# Altium schematic symbol library MCU.SchLib: 6 symbols
Pins are listed as number, name and electrical type; pins without a type are passive.

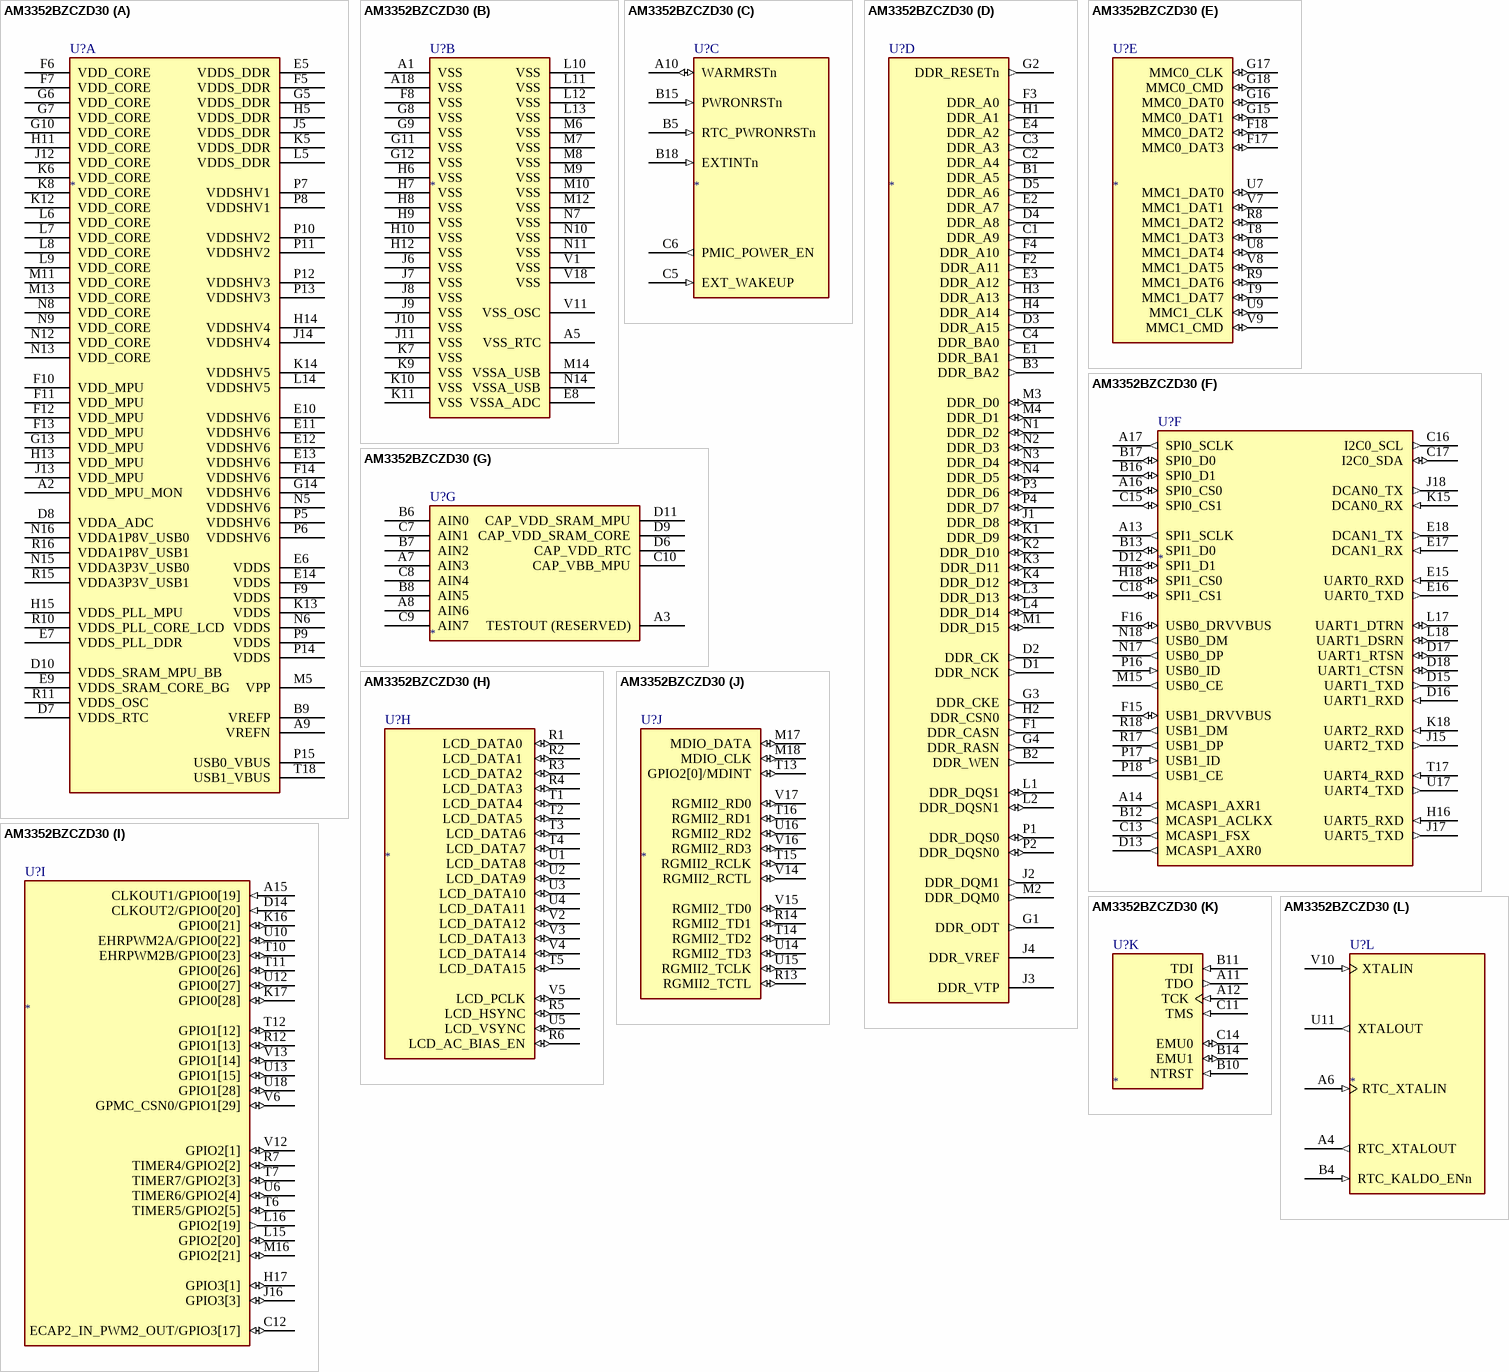
[diagram p0: symbol AM3352BZCZD30]

## AM3352BZCZD30
designator U?  (value not drawn)
Sitara ARM Cortex-A8 32-Bit RISC Microprocessor, 300 MHz, SGX530 3D Graphics Engine, -40 to 90 degC, 324-pin NFBGA (ZCZ); Manufacturer Part Number: *
part A pins: A2 VDD_MPU_MON (power), A9 VREFN (power) "Analog Negative Reference Input", B9 VREFP (power) "Analog Positive Reference Input", D7 VDDS_RTC (power) "Maximum current rating for the RTC domain", D8 VDDA_ADC (power) "Supply voltage range for ADC, Analog", D10 VDDS_SRAM_MPU_BB (power) "Maximum current rating for MPU SRAM LDOs", E5 VDDS_DDR (power) "Maximum current rating for DDR IO domain", E6 VDDS (power) "Supply voltage range for all dual-voltage IO domains", E7 VDDS_PLL_DDR (power) "Maximum current rating for the DPLL DDR", E9 VDDS_SRAM_CORE_BG (power) "Maximum current rating for core SRAM LDOs", E10 VDDSHV6 (power) "Supply voltage range for dual-voltage IO domain (1.8-V operation)", E11 VDDSHV6 (power) "Supply voltage range for dual-voltage IO domain (1.8-V operation)", E12 VDDSHV6 (power) "Supply voltage range for dual-voltage IO domain (1.8-V operation)", E13 VDDSHV6 (power) "Supply voltage range for dual-voltage IO domain (1.8-V operation)", E14 VDDS (power) "Supply voltage range for all dual-voltage IO domains", F5 VDDS_DDR (power) "Maximum current rating for DDR IO domain", F6 VDD_CORE (power) "Maximum current rating for the core domain", F7 VDD_CORE (power) "Maximum current rating for the core domain", F9 VDDS (power) "Supply voltage range for all dual-voltage IO domains", F10 VDD_MPU (power) "Maximum current rating for the MPU domain", F11 VDD_MPU (power) "Maximum current rating for the MPU domain", F12 VDD_MPU (power) "Maximum current rating for the MPU domain", F13 VDD_MPU (power) "Maximum current rating for the MPU domain", F14 VDDSHV6 (power) "Supply voltage range for dual-voltage IO domain (1.8-V operation)", G5 VDDS_DDR (power) "Maximum current rating for DDR IO domain", G6 VDD_CORE (power) "Maximum current rating for the core domain", G7 VDD_CORE (power) "Maximum current rating for the core domain", G10 VDD_CORE (power) "Maximum current rating for the core domain", G13 VDD_MPU (power) "Maximum current rating for the MPU domain", G14 VDDSHV6 (power) "Supply voltage range for dual-voltage IO domain (1.8-V operation)", H5 VDDS_DDR (power) "Maximum current rating for DDR IO domain", H11 VDD_CORE (power) "Maximum current rating for the core domain", H13 VDD_MPU (power) "Maximum current rating for the MPU domain", H14 VDDSHV4 (power) "Supply voltage range for dual-voltage IO domain (1.8-V operation)", H15 VDDS_PLL_MPU (power) "Maximum current rating for the DPLL MPU", J5 VDDS_DDR (power) "Maximum current rating for DDR IO domain", J12 VDD_CORE (power) "Maximum current rating for the core domain", J13 VDD_MPU (power) "Maximum current rating for the MPU domain", J14 VDDSHV4 (power) "Supply voltage range for dual-voltage IO domain (1.8-V operation)", K5 VDDS_DDR (power) "Maximum current rating for DDR IO domain", K6 VDD_CORE (power) "Maximum current rating for the core domain", K8 VDD_CORE (power) "Maximum current rating for the core domain", K12 VDD_CORE (power) "Maximum current rating for the core domain", K13 VDDS (power) "Supply voltage range for all dual-voltage IO domains", K14 VDDSHV5 (power) "Supply voltage range for dual-voltage IO domain (1.8-V operation)", L5 VDDS_DDR (power) "Maximum current rating for DDR IO domain", L6 VDD_CORE (power) "Maximum current rating for the core domain", L7 VDD_CORE (power) "Maximum current rating for the core domain", L8 VDD_CORE (power) "Maximum current rating for the core domain", L9 VDD_CORE (power) "Maximum current rating for the core domain", L14 VDDSHV5 (power) "Supply voltage range for dual-voltage IO domain (1.8-V operation)", M5 VPP (power) "Supply voltage range for the FUSE ROM domain", M11 VDD_CORE (power) "Maximum current rating for the core domain", M13 VDD_CORE (power) "Maximum current rating for the core domain", N5 VDDSHV6 (power) "Supply voltage range for dual-voltage IO domain (1.8-V operation)", N6 VDDS (power) "Supply voltage range for all dual-voltage IO domains", N8 VDD_CORE (power) "Maximum current rating for the core domain", N9 VDD_CORE (power) "Maximum current rating for the core domain", N12 VDD_CORE (power) "Maximum current rating for the core domain", N13 VDD_CORE (power) "Maximum current rating for the core domain", N15 VDDA3P3V_USB0 (power) "Supply voltage range for USB PHY, Analog, 3.3V", N16 VDDA1P8V_USB0 (power) "Supply voltage range for USB PHY, Analog, 1.8V", P5 VDDSHV6 (power) "Supply voltage range for dual-voltage IO domain (1.8-V operation)", P6 VDDSHV6 (power) "Supply voltage range for dual-voltage IO domain (1.8-V operation)", P7 VDDSHV1 (power) "Supply voltage range for dual-voltage IO domain (1.8-V operation)", P8 VDDSHV1 (power) "Supply voltage range for dual-voltage IO domain (1.8-V operation)", P9 VDDS (power) "Supply voltage range for all dual-voltage IO domains", P10 VDDSHV2 (power) "Supply voltage range for dual-voltage IO domain (1.8-V operation)", P11 VDDSHV2 (power) "Supply voltage range for dual-voltage IO domain (1.8-V operation)", P12 VDDSHV3 (power) "Supply voltage range for dual-voltage IO domain (1.8-V operation)", P13 VDDSHV3 (power) "Supply voltage range for dual-voltage IO domain (1.8-V operation)", P14 VDDS (power) "Supply voltage range for all dual-voltage IO domains", P15 USB0_VBUS (power) "USB0 VBUS", R10 VDDS_PLL_CORE_LCD (power) "Maximum current rating for the DPLL Core and LCD", R11 VDDS_OSC (power) "Maximum current rating for the system oscillator IOs", R15 VDDA3P3V_USB1 (power) "Supply voltage range for USB PHY, Analog, 3.3V", R16 VDDA1P8V_USB1 (power) "Supply voltage range for USB PHY, Analog, 1.8V", T18 USB1_VBUS (power) "USB1 VBUS"
part B pins: A1 VSS, A5 VSS_RTC, A18 VSS, E8 VSSA_ADC, F8 VSS, G8 VSS, G9 VSS, G11 VSS, G12 VSS, H6 VSS, H7 VSS, H8 VSS, H9 VSS, H10 VSS, H12 VSS, J6 VSS, J7 VSS, J8 VSS, J9 VSS, J10 VSS, J11 VSS, K7 VSS, K9 VSS, K10 VSS, K11 VSS, L10 VSS, L11 VSS, L12 VSS, L13 VSS, M6 VSS, M7 VSS, M8 VSS, M9 VSS, M10 VSS, M12 VSS, M14 VSSA_USB, N7 VSS, N10 VSS, N11 VSS, N14 VSSA_USB, V1 VSS, V11 VSS_OSC, V18 VSS
part C pins: A10 WARMRSTn (io) "Active low Warm Reset", B5 RTC_PWRONRSTn (in) "Active low RTC reset input", B15 PWRONRSTn (in) "Active low Power on Reset", B18 EXTINTn (in) "External Interrupt to ARM Cortext A8 core", C5 EXT_WAKEUP (in) "EXT_WAKEUP input", C6 PMIC_POWER_EN (out) "PMIC_POWER_EN output"
part D pins: B1 DDR_A5 (out) "DDR SDRAM ROW/COLUMN ADDRESS OUTPUT", B2 DDR_WEN (out) "DDR SDRAM WRITE ENABLE OUTPUT (ACTIVE LOW)", B3 DDR_BA2 (out) "DDR SDRAM BANK ADDRESS OUTPUT", C1 DDR_A9 (out) "DDR SDRAM ROW/COLUMN ADDRESS OUTPUT", C2 DDR_A4 (out) "DDR SDRAM ROW/COLUMN ADDRESS OUTPUT", C3 DDR_A3 (out) "DDR SDRAM ROW/COLUMN ADDRESS OUTPUT", C4 DDR_BA0 (out) "DDR SDRAM BANK ADDRESS OUTPUT", D1 DDR_NCK (out) "DDR SDRAM CLOCK OUTPUT (Differential-)", D2 DDR_CK (out) "DDR SDRAM CLOCK OUTPUT (Differential+)", D3 DDR_A15 (out) "DDR SDRAM ROW/COLUMN ADDRESS OUTPUT", D4 DDR_A8 (out) "DDR SDRAM ROW/COLUMN ADDRESS OUTPUT", D5 DDR_A6 (out) "DDR SDRAM ROW/COLUMN ADDRESS OUTPUT", E1 DDR_BA1 (out) "DDR SDRAM BANK ADDRESS OUTPUT", E2 DDR_A7 (out) "DDR SDRAM ROW/COLUMN ADDRESS OUTPUT", E3 DDR_A12 (out) "DDR SDRAM ROW/COLUMN ADDRESS OUTPUT", E4 DDR_A2 (out) "DDR SDRAM ROW/COLUMN ADDRESS OUTPUT", F1 DDR_CASN (out) "DDR SDRAM COLUMN ADDRESS STROBE OUTPUT (ACTIVE LOW)", F2 DDR_A11 (out) "DDR SDRAM ROW/COLUMN ADDRESS OUTPUT", F3 DDR_A0 (out) "DDR SDRAM ROW/COLUMN ADDRESS OUTPUT", F4 DDR_A10 (out) "DDR SDRAM ROW/COLUMN ADDRESS OUTPUT", G1 DDR_ODT (out) "ODT OUTPUT", G2 DDR_RESETn (out) "DDR3/DDR3L RESET OUTPUT (ACTIVE LOW)", G3 DDR_CKE (out) "DDR SDRAM CLOCK ENABLE OUTPUT", G4 DDR_RASN (out) "DDR SDRAM ROW ADDRESS STROBE OUTPUT (ACTIVE LOW)", H1 DDR_A1 (out) "DDR SDRAM ROW/COLUMN ADDRESS OUTPUT", H2 DDR_CSN0 (out) "DDR SDRAM CHIP SELECT OUTPUT", H3 DDR_A13 (out) "DDR SDRAM ROW/COLUMN ADDRESS OUTPUT", H4 DDR_A14 (out) "DDR SDRAM ROW/COLUMN ADDRESS OUTPUT", J1 DDR_D8 (io) "DDR SDRAM DATA INPUT/OUTPUT", J2 DDR_DQM1 (out) "DDR WRITE ENABLE / DATA MASK FOR DATA[15:8]", J3 DDR_VTP (power) "VTP Compensation Resistor", J4 DDR_VREF (power) "Voltage Reference Input", K1 DDR_D9 (io) "DDR SDRAM DATA INPUT/OUTPUT", K2 DDR_D10 (io) "DDR SDRAM DATA INPUT/OUTPUT", K3 DDR_D11 (io) "DDR SDRAM DATA INPUT/OUTPUT", K4 DDR_D12 (io) "DDR SDRAM DATA INPUT/OUTPUT", L1 DDR_DQS1 (io) "DDR DATA STROBE FOR DATA[15:8] (Differential+)", L2 DDR_DQSN1 (io) "DDR DATA STROBE FOR DATA[15:8] (Differential-)", L3 DDR_D13 (io) "DDR SDRAM DATA INPUT/OUTPUT", L4 DDR_D14 (io) "DDR SDRAM DATA INPUT/OUTPUT", M1 DDR_D15 (io) "DDR SDRAM DATA INPUT/OUTPUT", M2 DDR_DQM0 (out) "DDR WRITE ENABLE / DATA MASK FOR DATA[7:0]", M3 DDR_D0 (io) "DDR SDRAM DATA INPUT/OUTPUT", M4 DDR_D1 (io) "DDR SDRAM DATA INPUT/OUTPUT", N1 DDR_D2 (io) "DDR SDRAM DATA INPUT/OUTPUT", N2 DDR_D3 (io) "DDR SDRAM DATA INPUT/OUTPUT", N3 DDR_D4 (io) "DDR SDRAM DATA INPUT/OUTPUT", N4 DDR_D5 (io) "DDR SDRAM DATA INPUT/OUTPUT", P1 DDR_DQS0 (io) "DDR DATA STROBE FOR DATA[7:0] (Differential+)", P2 DDR_DQSN0 (io) "DDR DATA STROBE FOR DATA[7:0] (Differential-)", P3 DDR_D6 (io) "DDR SDRAM DATA INPUT/OUTPUT", P4 DDR_D7 (io) "DDR SDRAM DATA INPUT/OUTPUT"
part E pins: F17 MMC0_DAT3 (io), F18 MMC0_DAT2 (io), G15 MMC0_DAT1 (io), G16 MMC0_DAT0 (io), G17 MMC0_CLK (io), G18 MMC0_CMD (io), R8 MMC1_DAT2 (io), R9 MMC1_DAT6 (io), T8 MMC1_DAT3 (io), T9 MMC1_DAT7 (io), U7 MMC1_DAT0 (io), U8 MMC1_DAT4 (io), U9 MMC1_CLK (io), V7 MMC1_DAT1 (io), V8 MMC1_DAT5 (io), V9 MMC1_CMD (io)
part F pins: A13 SPI1_SCLK (out), A14 MCASP1_AXR1 (out), A16 SPI0_CS0 (io), A17 SPI0_SCLK (out), B12 MCASP1_ACLKX (out), B13 SPI1_D0 (io), B16 SPI0_D1 (io), B17 SPI0_D0 (io), C13 MCASP1_FSX (out), C15 SPI0_CS1 (io), C16 I2C0_SCL (out), C17 I2C0_SDA (io), C18 SPI1_CS1 (io), D12 SPI1_D1 (io), D13 MCASP1_AXR0 (out), D15 UART1_TXD (out), D16 UART1_RXD (in), D17 UART1_RTSN (io), D18 UART1_CTSN (io), E15 UART0_RXD (in), E16 UART0_TXD (out), E17 DCAN1_RX (in), E18 DCAN1_TX (out), F15 USB1_DRVVBUS (io) "USB1 Active high VBUS control output", F16 USB0_DRVVBUS (io), H16 UART5_RXD (in), H18 SPI1_CS0 (io), J15 UART2_TXD (out), J17 UART5_TXD (out), J18 DCAN0_TX (out), K15 DCAN0_RX (in), K18 UART2_RXD (in), L17 UART1_DTRN (io), L18 UART1_DSRN (io), M15 USB0_CE (out) "USB0 Active high Charger Enable output", N17 USB0_DP (out) "USB0 Data plus", N18 USB0_DM (out) "USB0 Data minus", P16 USB0_ID (in) "USB0 OTG ID (Micro-A or Micro-B Plug)", P17 USB1_ID (in) "USB1 OTG ID (Micro-A or Micro-B Plug)", P18 USB1_CE (out) "USB1 Active high Charger Enable output", R17 USB1_DP (out) "USB1 Data plus", R18 USB1_DM (out) "USB1 Data minus", T17 UART4_RXD (in), U17 UART4_TXD (out)
part G pins: A3 TESTOUT (RESERVED), A7 AIN3 "Analog Input/Output", A8 AIN6 "Analog Input", B6 AIN0 "Analog Input/Output", B7 AIN2 "Analog Input/Output", B8 AIN5 "Analog Input", C7 AIN1 "Analog Input/Output", C8 AIN4 "Analog Input/Output", C9 AIN7 "Analog Input", C10 CAP_VBB_MPU (power), D6 CAP_VDD_RTC (power) "Supply voltage range for the RTC core domain", D9 CAP_VDD_SRAM_CORE (power), D11 CAP_VDD_SRAM_MPU (power)
part H pins: R1 LCD_DATA0  (io), R2 LCD_DATA1  (io), R3 LCD_DATA2  (io), R4 LCD_DATA3  (io), R5 LCD_HSYNC (io), R6 LCD_AC_BIAS_EN (io), T1 LCD_DATA4  (io), T2 LCD_DATA5  (io), T3 LCD_DATA6 (io), T4 LCD_DATA7 (io), T5 LCD_DATA15 (io), U1 LCD_DATA8 (io), U2 LCD_DATA9 (io), U3 LCD_DATA10 (io), U4 LCD_DATA11 (io), U5 LCD_VSYNC (io), V2 LCD_DATA12 (io), V3 LCD_DATA13 (io), V4 LCD_DATA14 (io), V5 LCD_PCLK (io)
part I pins: A15 CLKOUT1/GPIO0[19] (in) "External DMA Event or Interrupt 0", C12 ECAP2_IN_PWM2_OUT/GPIO3[17] (io), D14 CLKOUT2/GPIO0[20] (in) "External DMA Event or Interrupt 1", H17 GPIO3[1] (io), J16 GPIO3[3] (io), K16 GPIO0[21] (io), K17 GPIO0[28] (io), L15 GPIO2[20] (io), L16 GPIO2[19] (out), M16 GPIO2[21] (io), R7 TIMER4/GPIO2[2] (io), R12 GPIO1[13] (io), T6 TIMER5/GPIO2[5] (io), T7 TIMER7/GPIO2[3] (io), T10 EHRPWM2B/GPIO0[23] (io), T11 GPIO0[26] (io), T12 GPIO1[12] (io), U6 TIMER6/GPIO2[4] (io), U10 EHRPWM2A/GPIO0[22] (io), U12 GPIO0[27] (io), U13 GPIO1[15] (io), U18 GPIO1[28] (io), V6 GPMC_CSN0/GPIO1[29] (io), V12 GPIO2[1] (io), V13 GPIO1[14] (io)
part J pins: M17 MDIO_DATA (io), M18 MDIO_CLK (io), R13 RGMII2_TCTL (io), R14 RGMII2_TD1 (io), T13 GPIO2[0]/MDINT (io), T14 RGMII2_TD2 (io), T15 RGMII2_RCLK (io), T16 RGMII2_RD1 (io), U14 RGMII2_TD3 (io), U15 RGMII2_TCLK (io), U16 RGMII2_RD2 (io), V14 RGMII2_RCTL (io), V15 RGMII2_TD0 (io), V16 RGMII2_RD3 (io), V17 RGMII2_RD0 (io)
part K pins: A11 TDO (out) "JTAG TEST DATA OUTPUT", A12 TCK (in) "JTAG TEST CLOCK", B10 NTRST (in) "JTAG TEST RESET (ACTIVE LOW)", B11 TDI (in) "JTAG TEST DATA INPUT", B14 EMU1 (io), C11 TMS (in) "JTAG TEST MODE SELECT", C14 EMU0 (io)
part L pins: A4 RTC_XTALOUT (out) "Low frequency (32.768 KHz) Real Time Clock oscillator output", A6 RTC_XTALIN (in) "Low frequency (32.768 KHz) Real Time Clock oscillator input", B4 RTC_KALDO_ENn (in) "Active low enable input for internal CAP_VDD_RTC voltage regulator", U11 XTALOUT (out) "High frequency oscillator output", V10 XTALIN (in) "High frequency oscillator input"

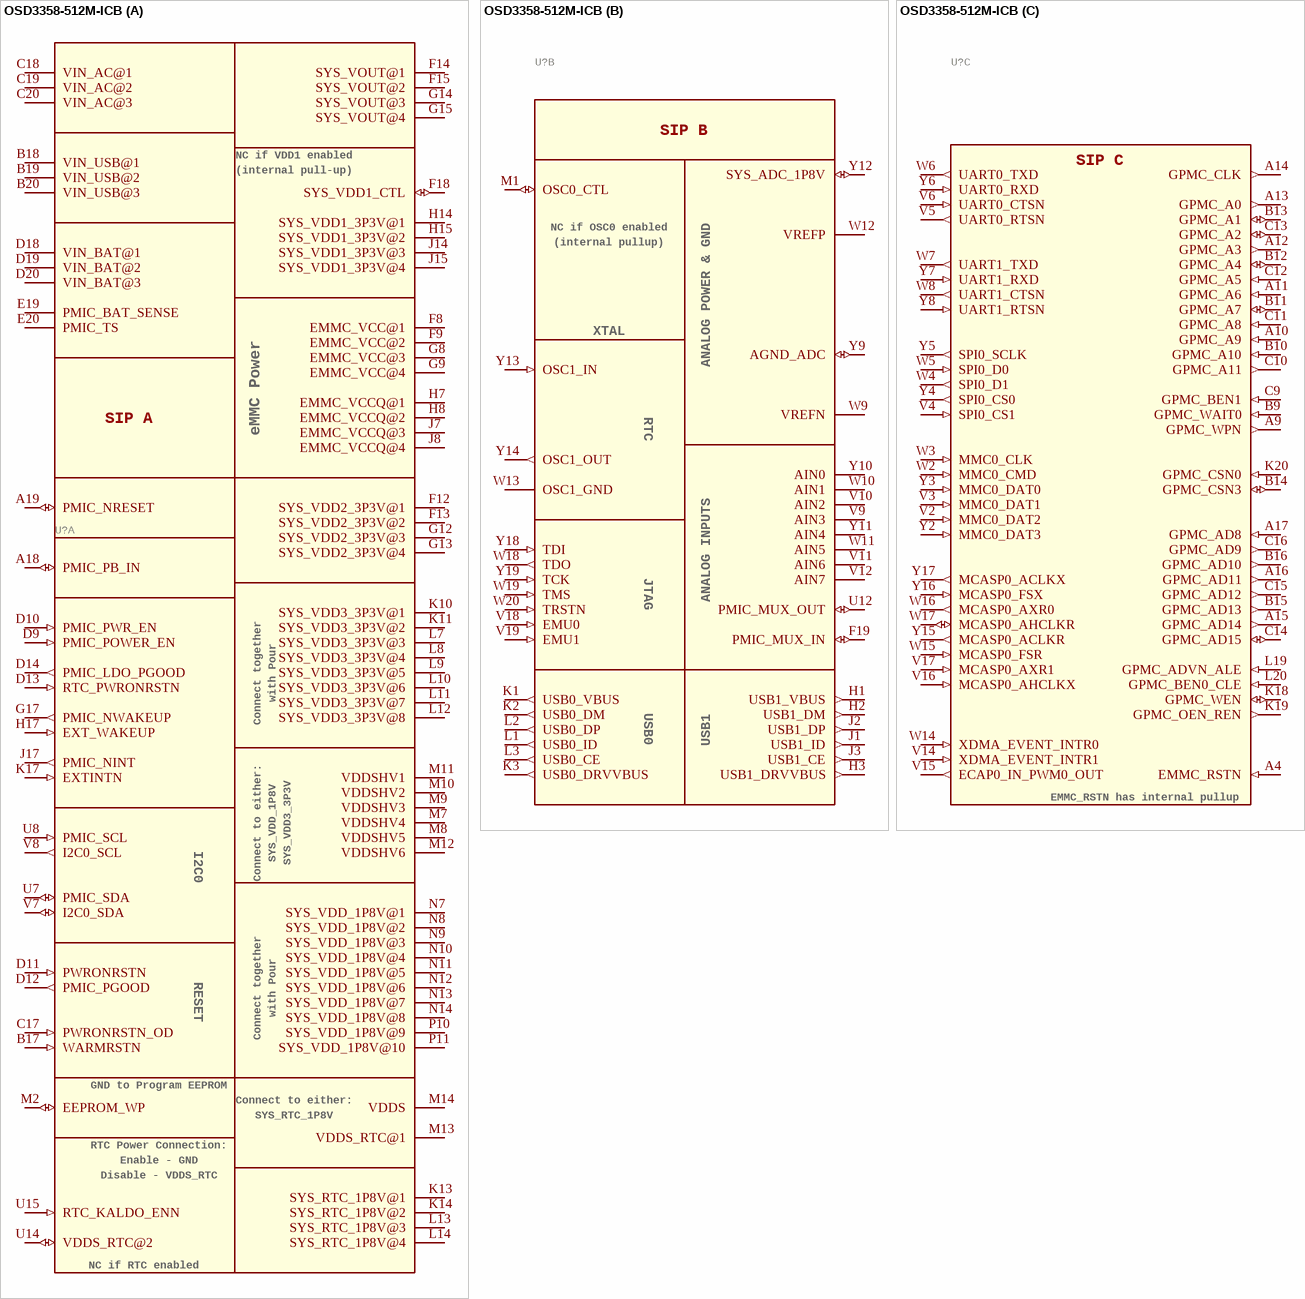
[diagram p1: symbol OSD3358-512M-ICB]

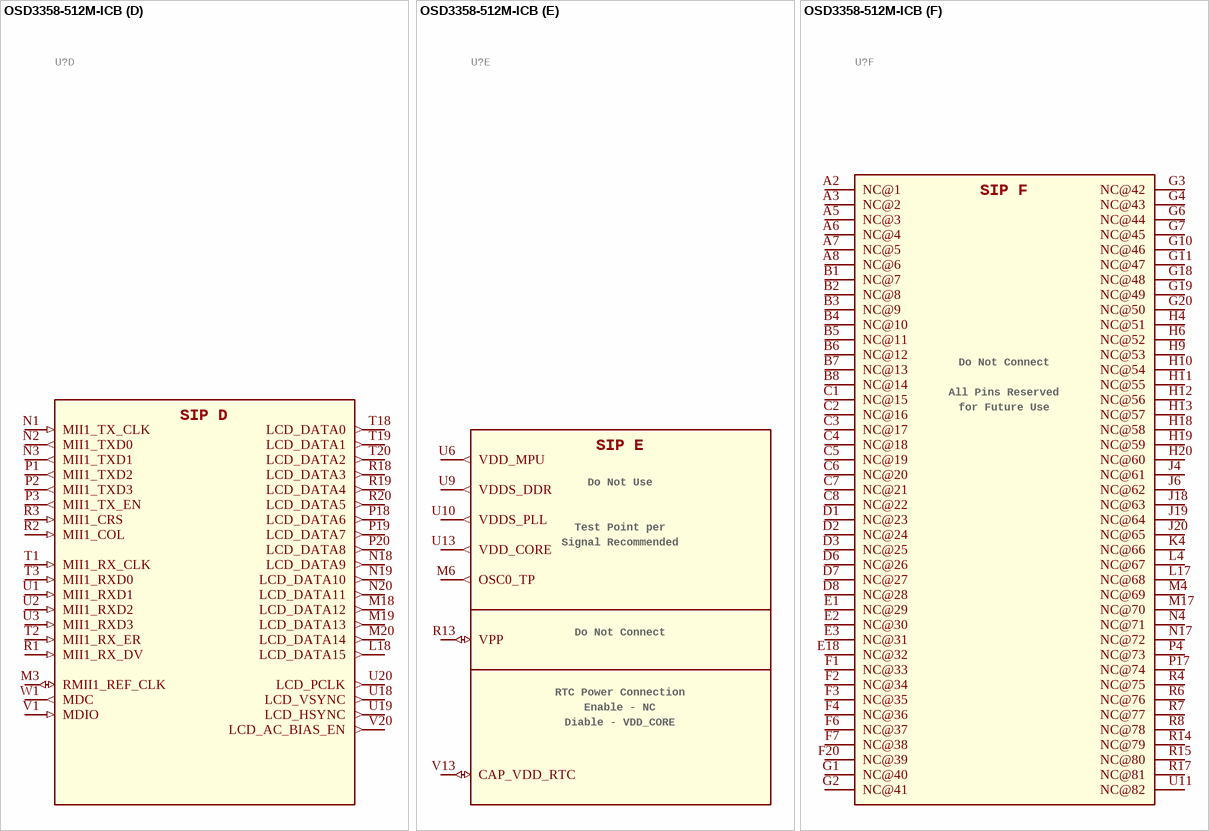
[diagram p2: symbol OSD3358-512M-ICB]

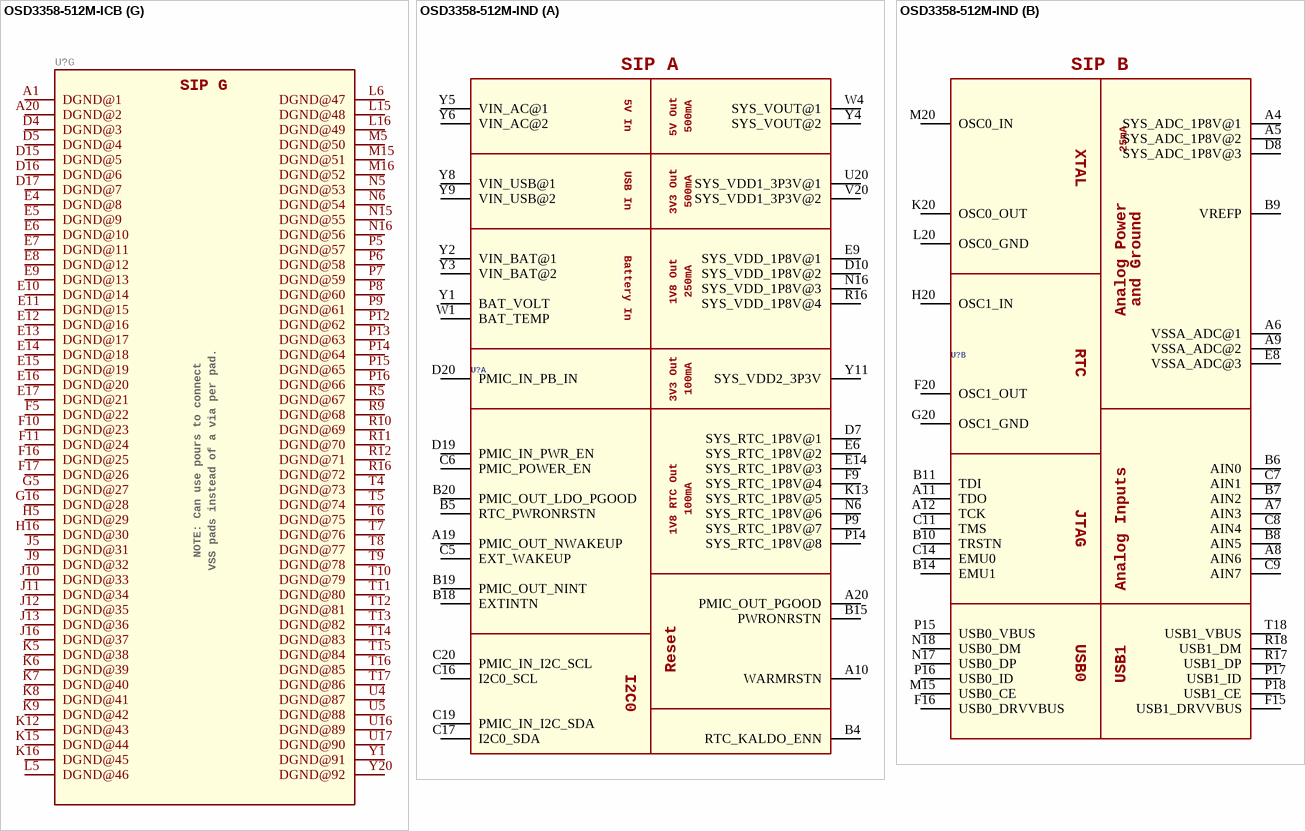
[diagram p3: symbols OSD3358-512M-ICB to OSD3358-512M-IND]

## OSD3358-512M-ICB
designator U?  (value not drawn)
Manufacturer 1: Octavo Systems; Manufacturer Part Number 1: OSD3358-512M-ICB; GateName_2: B; GateName_3: C; GateName_4: D; SymbolName_4: OSD335X-CSIP-LOGICAL-D; GateName_5: F; SymbolName_5: OSD335X-CSIP-LOGICAL-F; GateName_6: G; SymbolName_6: OSD335X-CSIP-LOGICAL-G; GateName_7: E; SymbolName_7: OSD335X-CSIP-LOGICAL-E; DeviceSetName: OSD3358-512M-BCB; Core Architecture: ARM; Frequency: 1GHz; RAM Size: 512MB; SymbolName_1: OSD335X-CSIP-LOGICAL-A; SymbolName_2: OSD335X-CSIP-LOGICAL-B; SymbolName_3: OSD335X-CSIP-LOGICAL-C; GateName_1: A; LibraryName: OSD3358-C-SiP-RED Platform; Package: OSD335X-BGA-400; Supplier 1: Digi-Key; RoHS: No; Stock 1: 3; Pricing 1: 1=65.50000, 10=61.45000, 100=55.10020 (USD); Min Operating Temperature: -40°C; Max Operating Temperature: 85°C; ComponentLink1URL: https://octavosystems.com/docs/osd335x-c-sip-datasheet/?src-supplier=Digi-Key; ComponentLink1Description: https://octavosystems.com/docs/osd335x-c-sip-datasheet/?src-supplier=Digi-Key; Supplier Part Number 1: 1676-1005-ND
part A pins: A18 PMIC_PB_IN (io), A19 PMIC_NRESET (io), B17 WARMRSTN (in), B18 VIN_USB@1 (power), B19 VIN_USB@2 (power), B20 VIN_USB@3 (power), C17 PWRONRSTN_OD (in), C18 VIN_AC@1 (power), C19 VIN_AC@2 (power), C20 VIN_AC@3 (power), D9 PMIC_POWER_EN (in), D10 PMIC_PWR_EN (in), D11 PWRONRSTN (in), D12 PMIC_PGOOD (out), D13 RTC_PWRONRSTN (in), D14 PMIC_LDO_PGOOD (out), D18 VIN_BAT@1 (power), D19 VIN_BAT@2 (power), D20 VIN_BAT@3 (power), E19 PMIC_BAT_SENSE, E20 PMIC_TS, F8 EMMC_VCC@1 (power), F9 EMMC_VCC@2 (power), F12 SYS_VDD2_3P3V@1 (power), F13 SYS_VDD2_3P3V@2 (power), F14 SYS_VOUT@1 (power), F15 SYS_VOUT@2 (power), F18 SYS_VDD1_CTL (io), G8 EMMC_VCC@3 (power), G9 EMMC_VCC@4 (power), G12 SYS_VDD2_3P3V@3 (power), G13 SYS_VDD2_3P3V@4 (power), G14 SYS_VOUT@3 (power), G15 SYS_VOUT@4 (power), G17 PMIC_NWAKEUP (out), H7 EMMC_VCCQ@1 (power), H8 EMMC_VCCQ@2 (power), H14 SYS_VDD1_3P3V@1 (power), H15 SYS_VDD1_3P3V@2 (power), H17 EXT_WAKEUP (in), J7 EMMC_VCCQ@3 (power), J8 EMMC_VCCQ@4 (power), J14 SYS_VDD1_3P3V@3 (power), J15 SYS_VDD1_3P3V@4 (power), J17 PMIC_NINT (out), K10 SYS_VDD3_3P3V@1 (power), K11 SYS_VDD3_3P3V@2 (power), K13 SYS_RTC_1P8V@1 (power), K14 SYS_RTC_1P8V@2 (power), K17 EXTINTN (in), L7 SYS_VDD3_3P3V@3 (power), L8 SYS_VDD3_3P3V@4 (power), L9 SYS_VDD3_3P3V@5 (power), L10 SYS_VDD3_3P3V@6 (power), L11 SYS_VDD3_3P3V@7 (power), L12 SYS_VDD3_3P3V@8 (power), L13 SYS_RTC_1P8V@3 (power), L14 SYS_RTC_1P8V@4 (power), M2 EEPROM_WP (io), M7 VDDSHV4 (power), M8 VDDSHV5 (power), M9 VDDSHV3 (power), M10 VDDSHV2 (power), M11 VDDSHV1 (power), M12 VDDSHV6 (power), M13 VDDS_RTC@1 (power), M14 VDDS (power), N7 SYS_VDD_1P8V@1 (power), N8 SYS_VDD_1P8V@2 (power), N9 SYS_VDD_1P8V@3 (power), N10 SYS_VDD_1P8V@4 (power), N11 SYS_VDD_1P8V@5 (power), N12 SYS_VDD_1P8V@6 (power), N13 SYS_VDD_1P8V@7 (power), N14 SYS_VDD_1P8V@8 (power), P10 SYS_VDD_1P8V@9 (power), P11 SYS_VDD_1P8V@10 (power), U7 PMIC_SDA (io), U8 PMIC_SCL (in), U14 VDDS_RTC@2 (io), U15 RTC_KALDO_ENN (in), V7 I2C0_SDA (io), V8 I2C0_SCL (out)
part B pins: F19 PMIC_MUX_IN (io), H1 USB1_VBUS (out), H2 USB1_DM (out), H3 USB1_DRVVBUS (out), J1 USB1_ID (out), J2 USB1_DP (out), J3 USB1_CE (out), K1 USB0_VBUS (out), K2 USB0_DM (out), K3 USB0_DRVVBUS (out), L1 USB0_ID (out), L2 USB0_DP (out), L3 USB0_CE (out), M1 OSC0_CTL (io), U12 PMIC_MUX_OUT (io), V9 AIN3, V10 AIN2, V11 AIN6, V12 AIN7, V18 EMU0 (in), V19 EMU1 (in), W9 VREFN, W10 AIN1, W11 AIN5, W12 VREFP, W13 OSC1_GND (power), W18 TDO (out), W19 TMS (in), W20 TRSTN (in), Y9 AGND_ADC (io), Y10 AIN0, Y11 AIN4, Y12 SYS_ADC_1P8V (io), Y13 OSC1_IN (in), Y14 OSC1_OUT (out), Y18 TDI (in), Y19 TCK (in)
part C pins: A4 EMMC_RSTN (in), A9 GPMC_WPN (out), A10 GPMC_A9 (in), A11 GPMC_A6 (in), A12 GPMC_A3 (out), A13 GPMC_A0 (out), A14 GPMC_CLK (out), A15 GPMC_AD14 (out), A16 GPMC_AD11 (out), A17 GPMC_AD8 (in), B9 GPMC_WAIT0 (in), B10 GPMC_A10 (in), B11 GPMC_A7 (io), B12 GPMC_A4 (io), B13 GPMC_A1 (io), B14 GPMC_CSN3 (io), B15 GPMC_AD13 (out), B16 GPMC_AD10 (out), C9 GPMC_BEN1 (in), C10 GPMC_A11 (out), C11 GPMC_A8 (in), C12 GPMC_A5 (in), C13 GPMC_A2 (io), C14 GPMC_AD15 (io), C15 GPMC_AD12 (out), C16 GPMC_AD9 (out), K18 GPMC_WEN (io), K19 GPMC_OEN_REN (out), K20 GPMC_CSN0 (in), L19 GPMC_ADVN_ALE (in), L20 GPMC_BEN0_CLE (in), V2 MMC0_DAT2 (in), V3 MMC0_DAT1 (in), V4 SPI0_CS1 (in), V5 UART0_RTSN (out), V6 UART0_CTSN (in), V14 XDMA_EVENT_INTR1 (in), V15 ECAP0_IN_PWM0_OUT (out), V16 MCASP0_AHCLKX (in), V17 MCASP0_AXR1 (in), W2 MMC0_CMD (in), W3 MMC0_CLK (in), W4 SPI0_D1 (out), W5 SPI0_D0 (in), W6 UART0_TXD (out), W7 UART1_TXD (out), W8 UART1_CTSN (out), W14 XDMA_EVENT_INTR0 (in), W15 MCASP0_FSR (in), W16 MCASP0_AXR0 (out), W17 MCASP0_AHCLKR (io), Y2 MMC0_DAT3 (in), Y3 MMC0_DAT0 (in), Y4 SPI0_CS0 (out), Y5 SPI0_SCLK (out), Y6 UART0_RXD (in), Y7 UART1_RXD (in), Y8 UART1_RTSN (in), Y15 MCASP0_ACLKR (out), Y16 MCASP0_FSX (in), Y17 MCASP0_ACLKX (out)
part D pins: L18 LCD_DATA15 (out), M3 RMII1_REF_CLK (io), M18 LCD_DATA12 (out), M19 LCD_DATA13 (out), M20 LCD_DATA14 (out), N1 MII1_TX_CLK (in), N2 MII1_TXD0 (out), N3 MII1_TXD1 (out), N18 LCD_DATA9 (out), N19 LCD_DATA10 (out), N20 LCD_DATA11 (out), P1 MII1_TXD2 (out), P2 MII1_TXD3 (out), P3 MII1_TX_EN (out), P18 LCD_DATA6 (out), P19 LCD_DATA7 (out), P20 LCD_DATA8 (out), R1 MII1_RX_DV (in), R2 MII1_COL (in), R3 MII1_CRS (in), R18 LCD_DATA3 (out), R19 LCD_DATA4 (out), R20 LCD_DATA5 (out), T1 MII1_RX_CLK (in), T2 MII1_RX_ER (in), T3 MII1_RXD0 (in), T18 LCD_DATA0 (out), T19 LCD_DATA1 (out), T20 LCD_DATA2 (out), U1 MII1_RXD1 (in), U2 MII1_RXD2 (in), U3 MII1_RXD3 (in), U18 LCD_VSYNC (out), U19 LCD_HSYNC (out), U20 LCD_PCLK (out), V1 MDIO (in), V20 LCD_AC_BIAS_EN (out), W1 MDC (out)
part E pins: M6 OSC0_TP (out), R13 VPP (io), U6 VDD_MPU (out), U9 VDDS_DDR (out), U10 VDDS_PLL (out), U13 VDD_CORE (out), V13 CAP_VDD_RTC (io)
part F pins: A2 NC@1, A3 NC@2, A5 NC@3, A6 NC@4, A7 NC@5, A8 NC@6, B1 NC@7, B2 NC@8, B3 NC@9, B4 NC@10, B5 NC@11, B6 NC@12, B7 NC@13, B8 NC@14, C1 NC@15, C2 NC@16, C3 NC@17, C4 NC@18, C5 NC@19, C6 NC@20, C7 NC@21, C8 NC@22, D1 NC@23, D2 NC@24, D3 NC@25, D6 NC@26, D7 NC@27, D8 NC@28, E1 NC@29, E2 NC@30, E3 NC@31, E18 NC@32, F1 NC@33, F2 NC@34, F3 NC@35, F4 NC@36, F6 NC@37, F7 NC@38, F20 NC@39, G1 NC@40, G2 NC@41, G3 NC@42, G4 NC@43, G6 NC@44, G7 NC@45, G10 NC@46, G11 NC@47, G18 NC@48, G19 NC@49, G20 NC@50, H4 NC@51, H6 NC@52, H9 NC@53, H10 NC@54, H11 NC@55, H12 NC@56, H13 NC@57, H18 NC@58, H19 NC@59, H20 NC@60, J4 NC@61, J6 NC@62, J18 NC@63, J19 NC@64, J20 NC@65, K4 NC@66, L4 NC@67, L17 NC@68, M4 NC@69, M17 NC@70, N4 NC@71, N17 NC@72, P4 NC@73, P17 NC@74, R4 NC@75, R6 NC@76, R7 NC@77, R8 NC@78, R14 NC@79, R15 NC@80, R17 NC@81, U11 NC@82
part G pins: A1 DGND@1 (power), A20 DGND@2 (power), D4 DGND@3 (power), D5 DGND@4 (power), D15 DGND@5 (power), D16 DGND@6 (power), D17 DGND@7 (power), E4 DGND@8 (power), E5 DGND@9 (power), E6 DGND@10 (power), E7 DGND@11 (power), E8 DGND@12 (power), E9 DGND@13 (power), E10 DGND@14 (power), E11 DGND@15 (power), E12 DGND@16 (power), E13 DGND@17 (power), E14 DGND@18 (power), E15 DGND@19 (power), E16 DGND@20 (power), E17 DGND@21 (power), F5 DGND@22 (power), F10 DGND@23 (power), F11 DGND@24 (power), F16 DGND@25 (power), F17 DGND@26 (power), G5 DGND@27 (power), G16 DGND@28 (power), H5 DGND@29 (power), H16 DGND@30 (power), J5 DGND@31 (power), J9 DGND@32 (power), J10 DGND@33 (power), J11 DGND@34 (power), J12 DGND@35 (power), J13 DGND@36 (power), J16 DGND@37 (power), K5 DGND@38 (power), K6 DGND@39 (power), K7 DGND@40 (power), K8 DGND@41 (power), K9 DGND@42 (power), K12 DGND@43 (power), K15 DGND@44 (power), K16 DGND@45 (power), L5 DGND@46 (power), L6 DGND@47 (power), L15 DGND@48 (power), L16 DGND@49 (power), M5 DGND@50 (power), M15 DGND@51 (power), M16 DGND@52 (power), N5 DGND@53 (power), N6 DGND@54 (power), N15 DGND@55 (power), N16 DGND@56 (power), P5 DGND@57 (power), P6 DGND@58 (power), P7 DGND@59 (power), P8 DGND@60 (power), P9 DGND@61 (power), P12 DGND@62 (power), P13 DGND@63 (power), P14 DGND@64 (power), P15 DGND@65 (power), P16 DGND@66 (power), R5 DGND@67 (power), R9 DGND@68 (power), R10 DGND@69 (power), R11 DGND@70 (power), R12 DGND@71 (power), R16 DGND@72 (power), T4 DGND@73 (power), T5 DGND@74 (power), T6 DGND@75 (power), T7 DGND@76 (power), T8 DGND@77 (power), T9 DGND@78 (power), T10 DGND@79 (power), T11 DGND@80 (power), T12 DGND@81 (power), T13 DGND@82 (power), T14 DGND@83 (power), T15 DGND@84 (power), T16 DGND@85 (power), T17 DGND@86 (power), U4 DGND@87 (power), U5 DGND@88 (power), U16 DGND@89 (power), U17 DGND@90 (power), Y1 DGND@91 (power), Y20 DGND@92 (power)
part A text: NC if VDD1 enabled; (internal pull-up); eMMC Power; SIP A; Connect together; with Pour; Connect to either:; SYS_VDD_1P8V; SYS_VDD3_3P3V; I2C0; RESET; GND to Program EEPROM; SYS_RTC_1P8V; RTC Power Connection:; Enable - GND; Disable - VDDS_RTC; NC if RTC enabled
part B text: SIP B; NC if OSC0 enabled; (internal pullup); ANALOG POWER & GND; XTAL; RTC; ANALOG INPUTS; JTAG; USB0; USB1
part C text: SIP C; EMMC_RSTN has internal pullup
part D text: SIP D
part E text: SIP E; Do Not Use; Test Point per; Signal Recommended; Do Not Connect; RTC Power Connection; Enable - NC; Diable - VDD_CORE
part F text: SIP F; Do Not Connect; All Pins Reserved; for Future Use
part G text: SIP G; NOTE: Can use pours to connect; VSS pads instead of a via per pad.

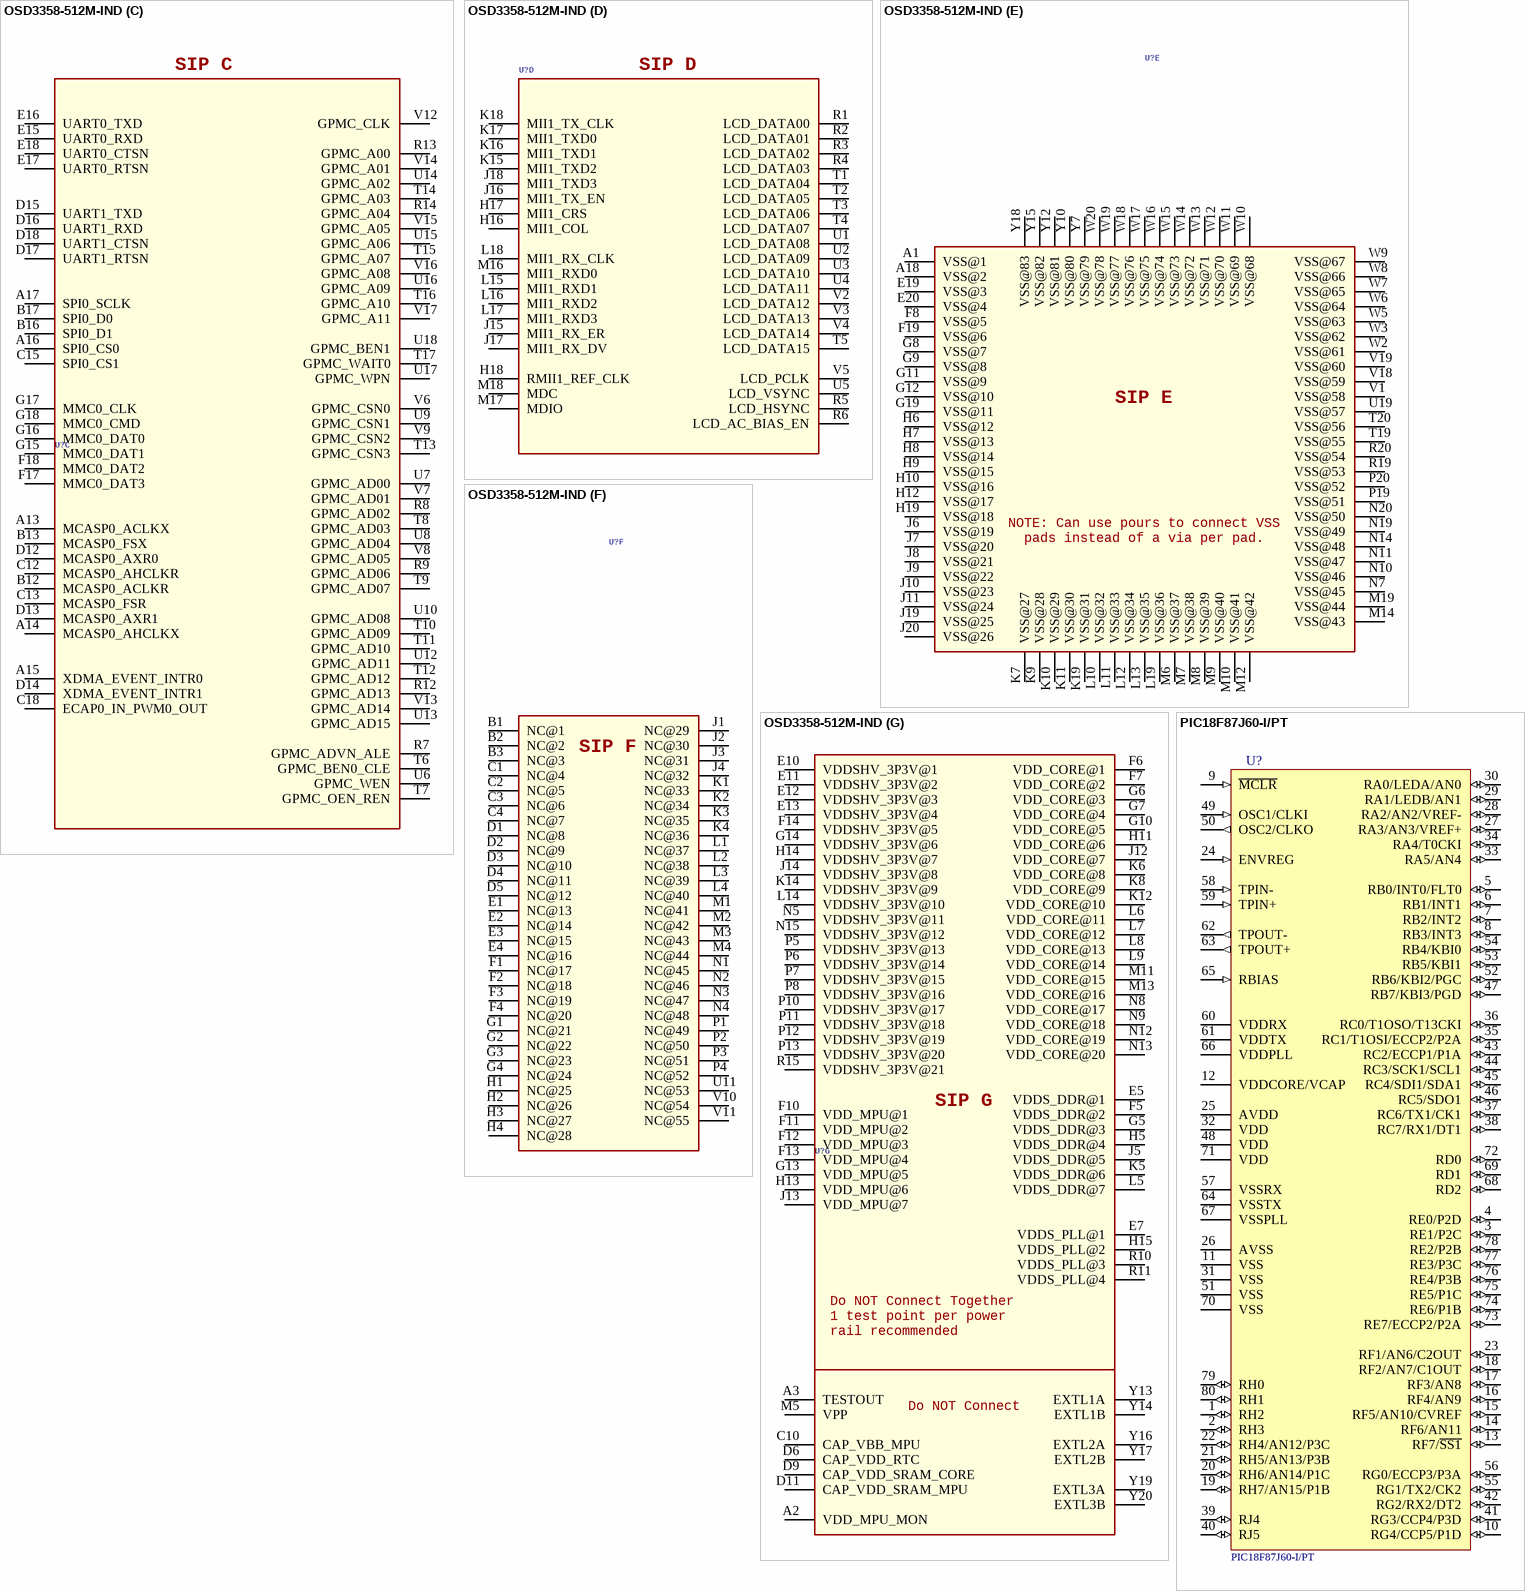
[diagram p4: symbols OSD3358-512M-IND to PIC18F87J60-I/PT]

## OSD3358-512M-IND
designator U?  (value not drawn)
OSD3358-512M-IND 400-BGA
part A pins: A10 WARMRSTN, A19 PMIC_OUT_NWAKEUP, A20 PMIC_OUT_PGOOD, B4 RTC_KALDO_ENN, B5 RTC_PWRONRSTN, B15 PWRONRSTN, B18 EXTINTN, B19 PMIC_OUT_NINT, B20 PMIC_OUT_LDO_PGOOD, C5 EXT_WAKEUP, C6 PMIC_POWER_EN, C16 I2C0_SCL, C17 I2C0_SDA, C19 PMIC_IN_I2C_SDA, C20 PMIC_IN_I2C_SCL, D7 SYS_RTC_1P8V@1, D10 SYS_VDD_1P8V@2, D19 PMIC_IN_PWR_EN, D20 PMIC_IN_PB_IN, E6 SYS_RTC_1P8V@2, E9 SYS_VDD_1P8V@1, E14 SYS_RTC_1P8V@3, F9 SYS_RTC_1P8V@4, K13 SYS_RTC_1P8V@5, N6 SYS_RTC_1P8V@6, N16 SYS_VDD_1P8V@3, P9 SYS_RTC_1P8V@7, P14 SYS_RTC_1P8V@8, R16 SYS_VDD_1P8V@4, U20 SYS_VDD1_3P3V@1, V20 SYS_VDD1_3P3V@2, W1 BAT_TEMP, W4 SYS_VOUT@1, Y1 BAT_VOLT, Y2 VIN_BAT@1, Y3 VIN_BAT@2, Y4 SYS_VOUT@2, Y5 VIN_AC@1, Y6 VIN_AC@2, Y8 VIN_USB@1, Y9 VIN_USB@2, Y11 SYS_VDD2_3P3V
part B pins: A4 SYS_ADC_1P8V@1, A5 SYS_ADC_1P8V@2, A6 VSSA_ADC@1, A7 AIN3, A8 AIN6, A9 VSSA_ADC@2, A11 TDO, A12 TCK, B6 AIN0, B7 AIN2, B8 AIN5, B9 VREFP, B10 TRSTN, B11 TDI, B14 EMU1, C7 AIN1, C8 AIN4, C9 AIN7, C11 TMS, C14 EMU0, D8 SYS_ADC_1P8V@3, E8 VSSA_ADC@3, F15 USB1_DRVVBUS, F16 USB0_DRVVBUS, F20 OSC1_OUT, G20 OSC1_GND, H20 OSC1_IN, K20 OSC0_OUT, L20 OSC0_GND, M15 USB0_CE, M20 OSC0_IN, N17 USB0_DP, N18 USB0_DM, P15 USB0_VBUS, P16 USB0_ID, P17 USB1_ID, P18 USB1_CE, R17 USB1_DP, R18 USB1_DM, T18 USB1_VBUS
part C pins: A13 MCASP0_ACLKX, A14 MCASP0_AHCLKX, A15 XDMA_EVENT_INTR0, A16 SPI0_CS0, A17 SPI0_SCLK, B12 MCASP0_ACLKR, B13 MCASP0_FSX, B16 SPI0_D1, B17 SPI0_D0, C12 MCASP0_AHCLKR, C13 MCASP0_FSR, C15 SPI0_CS1, C18 ECAP0_IN_PWM0_OUT, D12 MCASP0_AXR0, D13 MCASP0_AXR1, D14 XDMA_EVENT_INTR1, D15 UART1_TXD, D16 UART1_RXD, D17 UART1_RTSN, D18 UART1_CTSN, E15 UART0_RXD, E16 UART0_TXD, E17 UART0_RTSN, E18 UART0_CTSN, F17 MMC0_DAT3, F18 MMC0_DAT2, G15 MMC0_DAT1, G16 MMC0_DAT0, G17 MMC0_CLK, G18 MMC0_CMD, R7 GPMC_ADVN_ALE, R8 GPMC_AD02, R9 GPMC_AD06, R12 GPMC_AD13, R13 GPMC_A00, R14 GPMC_A04, T6 GPMC_BEN0_CLE, T7 GPMC_OEN_REN, T8 GPMC_AD03, T9 GPMC_AD07, T10 GPMC_AD09, T11 GPMC_AD10, T12 GPMC_AD12, T13 GPMC_CSN3, T14 GPMC_A03, T15 GPMC_A07, T16 GPMC_A10, T17 GPMC_WAIT0, U6 GPMC_WEN, U7 GPMC_AD00, U8 GPMC_AD04, U9 GPMC_CSN1, U10 GPMC_AD08, U12 GPMC_AD11, U13 GPMC_AD15, U14 GPMC_A02, U15 GPMC_A06, U16 GPMC_A09, U17 GPMC_WPN, U18 GPMC_BEN1, V6 GPMC_CSN0, V7 GPMC_AD01, V8 GPMC_AD05, V9 GPMC_CSN2, V12 GPMC_CLK, V13 GPMC_AD14, V14 GPMC_A01, V15 GPMC_A05, V16 GPMC_A08, V17 GPMC_A11
part D pins: H16 MII1_COL, H17 MII1_CRS, H18 RMII1_REF_CLK, J15 MII1_RX_ER, J16 MII1_TX_EN, J17 MII1_RX_DV, J18 MII1_TXD3, K15 MII1_TXD2, K16 MII1_TXD1, K17 MII1_TXD0, K18 MII1_TX_CLK, L15 MII1_RXD1, L16 MII1_RXD2, L17 MII1_RXD3, L18 MII1_RX_CLK, M16 MII1_RXD0, M17 MDIO, M18 MDC, R1 LCD_DATA00, R2 LCD_DATA01, R3 LCD_DATA02, R4 LCD_DATA03, R5 LCD_HSYNC, R6 LCD_AC_BIAS_EN, T1 LCD_DATA04, T2 LCD_DATA05, T3 LCD_DATA06, T4 LCD_DATA07, T5 LCD_DATA15, U1 LCD_DATA08, U2 LCD_DATA09, U3 LCD_DATA10, U4 LCD_DATA11, U5 LCD_VSYNC, V2 LCD_DATA12, V3 LCD_DATA13, V4 LCD_DATA14, V5 LCD_PCLK
part E pins: A1 VSS@1, A18 VSS@2, E19 VSS@3, E20 VSS@4, F8 VSS@5, F19 VSS@6, G8 VSS@7, G9 VSS@8, G11 VSS@9, G12 VSS@10, G19 VSS@11, H6 VSS@12, H7 VSS@13, H8 VSS@14, H9 VSS@15, H10 VSS@16, H12 VSS@17, H19 VSS@18, J6 VSS@19, J7 VSS@20, J8 VSS@21, J9 VSS@22, J10 VSS@23, J11 VSS@24, J19 VSS@25, J20 VSS@26, K7 VSS@27, K9 VSS@28, K10 VSS@29, K11 VSS@30, K19 VSS@31, L10 VSS@32, L11 VSS@33, L12 VSS@34, L13 VSS@35, L19 VSS@36, M6 VSS@37, M7 VSS@38, M8 VSS@39, M9 VSS@40, M10 VSS@41, M12 VSS@42, M14 VSS@43, M19 VSS@44, N7 VSS@45, N10 VSS@46, N11 VSS@47, N14 VSS@48, N19 VSS@49, N20 VSS@50, P19 VSS@51, P20 VSS@52, R19 VSS@53, R20 VSS@54, T19 VSS@55, T20 VSS@56, U19 VSS@57, V1 VSS@58, V18 VSS@59, V19 VSS@60, W2 VSS@61, W3 VSS@62, W5 VSS@63, W6 VSS@64, W7 VSS@65, W8 VSS@66, W9 VSS@67, W10 VSS@68, W11 VSS@69, W12 VSS@70, W13 VSS@71, W14 VSS@72, W15 VSS@73, W16 VSS@74, W17 VSS@75, W18 VSS@76, W19 VSS@77, W20 VSS@78, Y7 VSS@79, Y10 VSS@80, Y12 VSS@81, Y15 VSS@82, Y18 VSS@83
part F pins: B1 NC@1, B2 NC@2, B3 NC@3, C1 NC@4, C2 NC@5, C3 NC@6, C4 NC@7, D1 NC@8, D2 NC@9, D3 NC@10, D4 NC@11, D5 NC@12, E1 NC@13, E2 NC@14, E3 NC@15, E4 NC@16, F1 NC@17, F2 NC@18, F3 NC@19, F4 NC@20, G1 NC@21, G2 NC@22, G3 NC@23, G4 NC@24, H1 NC@25, H2 NC@26, H3 NC@27, H4 NC@28, J1 NC@29, J2 NC@30, J3 NC@31, J4 NC@32, K1 NC@33, K2 NC@34, K3 NC@35, K4 NC@36, L1 NC@37, L2 NC@38, L3 NC@39, L4 NC@40, M1 NC@41, M2 NC@42, M3 NC@43, M4 NC@44, N1 NC@45, N2 NC@46, N3 NC@47, N4 NC@48, P1 NC@49, P2 NC@50, P3 NC@51, P4 NC@52, U11 NC@53, V10 NC@54, V11 NC@55
part G pins: A2 VDD_MPU_MON, A3 TESTOUT, C10 CAP_VBB_MPU, D6 CAP_VDD_RTC, D9 CAP_VDD_SRAM_CORE, D11 CAP_VDD_SRAM_MPU, E5 VDDS_DDR@1, E7 VDDS_PLL@1, E10 VDDSHV_3P3V@1, E11 VDDSHV_3P3V@2, E12 VDDSHV_3P3V@3, E13 VDDSHV_3P3V@4, F5 VDDS_DDR@2, F6 VDD_CORE@1, F7 VDD_CORE@2, F10 VDD_MPU@1, F11 VDD_MPU@2, F12 VDD_MPU@3, F13 VDD_MPU@4, F14 VDDSHV_3P3V@5, G5 VDDS_DDR@3, G6 VDD_CORE@3, G7 VDD_CORE@4, G10 VDD_CORE@5, G13 VDD_MPU@5, G14 VDDSHV_3P3V@6, H5 VDDS_DDR@4, H11 VDD_CORE@6, H13 VDD_MPU@6, H14 VDDSHV_3P3V@7, H15 VDDS_PLL@2, J5 VDDS_DDR@5, J12 VDD_CORE@7, J13 VDD_MPU@7, J14 VDDSHV_3P3V@8, K5 VDDS_DDR@6, K6 VDD_CORE@8, K8 VDD_CORE@9, K12 VDD_CORE@10, K14 VDDSHV_3P3V@9, L5 VDDS_DDR@7, L6 VDD_CORE@11, L7 VDD_CORE@12, L8 VDD_CORE@13, L9 VDD_CORE@14, L14 VDDSHV_3P3V@10, M5 VPP, M11 VDD_CORE@15, M13 VDD_CORE@16, N5 VDDSHV_3P3V@11, N8 VDD_CORE@17, N9 VDD_CORE@18, N12 VDD_CORE@19, N13 VDD_CORE@20, N15 VDDSHV_3P3V@12, P5 VDDSHV_3P3V@13, P6 VDDSHV_3P3V@14, P7 VDDSHV_3P3V@15, P8 VDDSHV_3P3V@16, P10 VDDSHV_3P3V@17, P11 VDDSHV_3P3V@18, P12 VDDSHV_3P3V@19, P13 VDDSHV_3P3V@20, R10 VDDS_PLL@3, R11 VDDS_PLL@4, R15 VDDSHV_3P3V@21, Y13 EXTL1A, Y14 EXTL1B, Y16 EXTL2A, Y17 EXTL2B, Y19 EXTL3A, Y20 EXTL3B
part A text: SIP A; 5V In; 5V Out; 500mA; USB In; 3V3 Out; 1V8 Out; 250mA; Battery In; 100mA; 1V8 RTC Out; Reset; I2C0
part B text: SIP B; 25mA; XTAL; Analog Power; and Ground; RTC; JTAG; Analog Inputs; USB0; USB1
part C text: SIP C
part D text: SIP D
part E text: SIP E; NOTE: Can use pours to connect VSS; pads instead of a via per pad.
part F text: SIP F
part G text: SIP G; Do NOT Connect Together; 1 test point per power; rail recommended; Do NOT Connect

## PIC18F87J60-I/PT
designator U?
IC MCU 8BIT 128KB FLASH 80TQFP; Manufacturer 1: Microchip; Supplier 1: Digi-Key; RoHS: Yes; Category: Microcontrollers; Stock 1: 545; Pricing 1: 1=5.22000, 25=4.78000, 100=4.58750 (USD); ComponentLink1URL: https://datasheet.ciiva.com/14877/39762f-14877366.pdf?src-supplier=Arrow; ComponentLink1Description: https://datasheet.ciiva.com/14877/39762f-14877366.pdf?src-supplier=Arrow; ComponentLink2URL: https://datasheet.ciiva.com/26816/pic18f87j60-i-pt-26816815.pdf?src-supplier=IIIC; ComponentLink2Description: https://datasheet.ciiva.com/26816/pic18f87j60-i-pt-26816815.pdf?src-supplier=IIIC; ComponentLink3URL: https://datasheet.ciiva.com/16375/39762f-16375461.pdf?src-supplier=Future+Electronics; ComponentLink3Description: https://datasheet.ciiva.com/16375/39762f-16375461.pdf?src-supplier=Future+Electronics; ComponentLink4URL: https://datasheet.ciiva.com/9229/39762f-9229878.pdf?src-supplier=Avnet; ComponentLink4Description: https://datasheet.ciiva.com/9229/39762f-9229878.pdf?src-supplier=Avnet; ComponentLink5URL: https://datasheet.ciiva.com/6145/1669403-6145017.pdf?src-supplier=Farnell; ComponentLink5Description: https://datasheet.ciiva.com/6145/1669403-6145017.pdf?src-supplier=Farnell; ComponentLink6URL: https://datasheet.ciiva.com/1493/39762f-1493884.pdf?src-supplier=Digi-Key; ComponentLink6Description: https://datasheet.ciiva.com/1493/39762f-1493884.pdf?src-supplier=Digi-Key; ComponentLink7URL: https://datasheet.ciiva.com/4841/39762c-75461-4841020.pdf?src-supplier=Mouser; ComponentLink7Description: https://datasheet.ciiva.com/4841/39762c-75461-4841020.pdf?src-supplier=Mouser; ComponentLink8URL: https://datasheet.ciiva.com/7790/1669403-7790014.pdf?src-supplier=Element14; ComponentLink8Description: https://datasheet.ciiva.com/7790/1669403-7790014.pdf?src-supplier=Element14; ComponentLink9URL: https://datasheet.ciiva.com/29330/651739-da-01-en-ic-pic-mcu-pic18f87j60-i-pt-tqfp-80-mcp-29330647.pdf?src-supplier=Conrad; ComponentLink9Description: https://datasheet.ciiva.com/29330/651739-da-01-en-ic-pic-mcu-pic18f87j60-i-pt-tqfp-80-mcp-29330647.pdf?src-supplier=Conrad; Supplier Part Number 1: PIC18F87J60-I/PT-ND; Manufacturer Part Number 1: PIC18F87J60-I/PT
footprint TQFP-80_M (80-Pin Thin Plastic Quad Flat Pack 0.5 mm Pitch, 1.0/0.1 mm Lead Form, IPC Low Density)
pins: 1 RH2 (io), 2 RH3 (io), 3 RE1/P2C (io), 4 RE0/P2D (io), 5 RB0/INT0/FLT0 (io), 6 RB1/INT1 (io), 7 RB2/INT2 (io), 8 RB3/INT3 (io), 9 ~{MCLR} (in), 10 RG4/CCP5/P1D (io), 11 VSS (power), 12 VDDCORE/VCAP (power), 13 RF7/~{SS1} (io), 14 RF6/AN11 (io), 15 RF5/AN10/CVREF (io), 16 RF4/AN9 (io), 17 RF3/AN8 (io), 18 RF2/AN7/C1OUT (io), 19 RH7/AN15/P1B (io), 20 RH6/AN14/P1C (io), 21 RH5/AN13/P3B (io), 22 RH4/AN12/P3C (io), 23 RF1/AN6/C2OUT (io), 24 ENVREG (in), 25 AVDD (power), 26 AVSS (power), 27 RA3/AN3/VREF+ (io), 28 RA2/AN2/VREF- (io), 29 RA1/LEDB/AN1 (io), 30 RA0/LEDA/AN0 (io), 31 VSS (power), 32 VDD (power), 33 RA5/AN4 (io), 34 RA4/T0CKI (io), 35 RC1/T1OSI/ECCP2/P2A (io), 36 RC0/T1OSO/T13CKI (io), 37 RC6/TX1/CK1 (io), 38 RC7/RX1/DT1 (io), 39 RJ4 (io), 40 RJ5 (io), 41 RG3/CCP4/P3D (io), 42 RG2/RX2/DT2 (io), 43 RC2/ECCP1/P1A (io), 44 RC3/SCK1/SCL1 (io), 45 RC4/SDI1/SDA1 (io), 46 RC5/SDO1 (io), 47 RB7/KBI3/PGD (io), 48 VDD (power), 49 OSC1/CLKI (in), 50 OSC2/CLKO (out), 51 VSS (power), 52 RB6/KBI2/PGC (io), 53 RB5/KBI1 (io), 54 RB4/KBI0 (io), 55 RG1/TX2/CK2 (io), 56 RG0/ECCP3/P3A (io), 57 VSSRX (power), 58 TPIN- (in), 59 TPIN+ (in), 60 VDDRX (power), 61 VDDTX (power), 62 TPOUT- (out), 63 TPOUT+ (out), 64 VSSTX (power), 65 RBIAS (in), 66 VDDPLL (power), 67 VSSPLL (power), 68 RD2 (io), 69 RD1 (io), 70 VSS (power), 71 VDD (power), 72 RD0 (io), 73 RE7/ECCP2/P2A (io), 74 RE6/P1B (io), 75 RE5/P1C (io), 76 RE4/P3B (io), 77 RE3/P3C (io), 78 RE2/P2B (io), 79 RH0 (io), 80 RH1 (io)

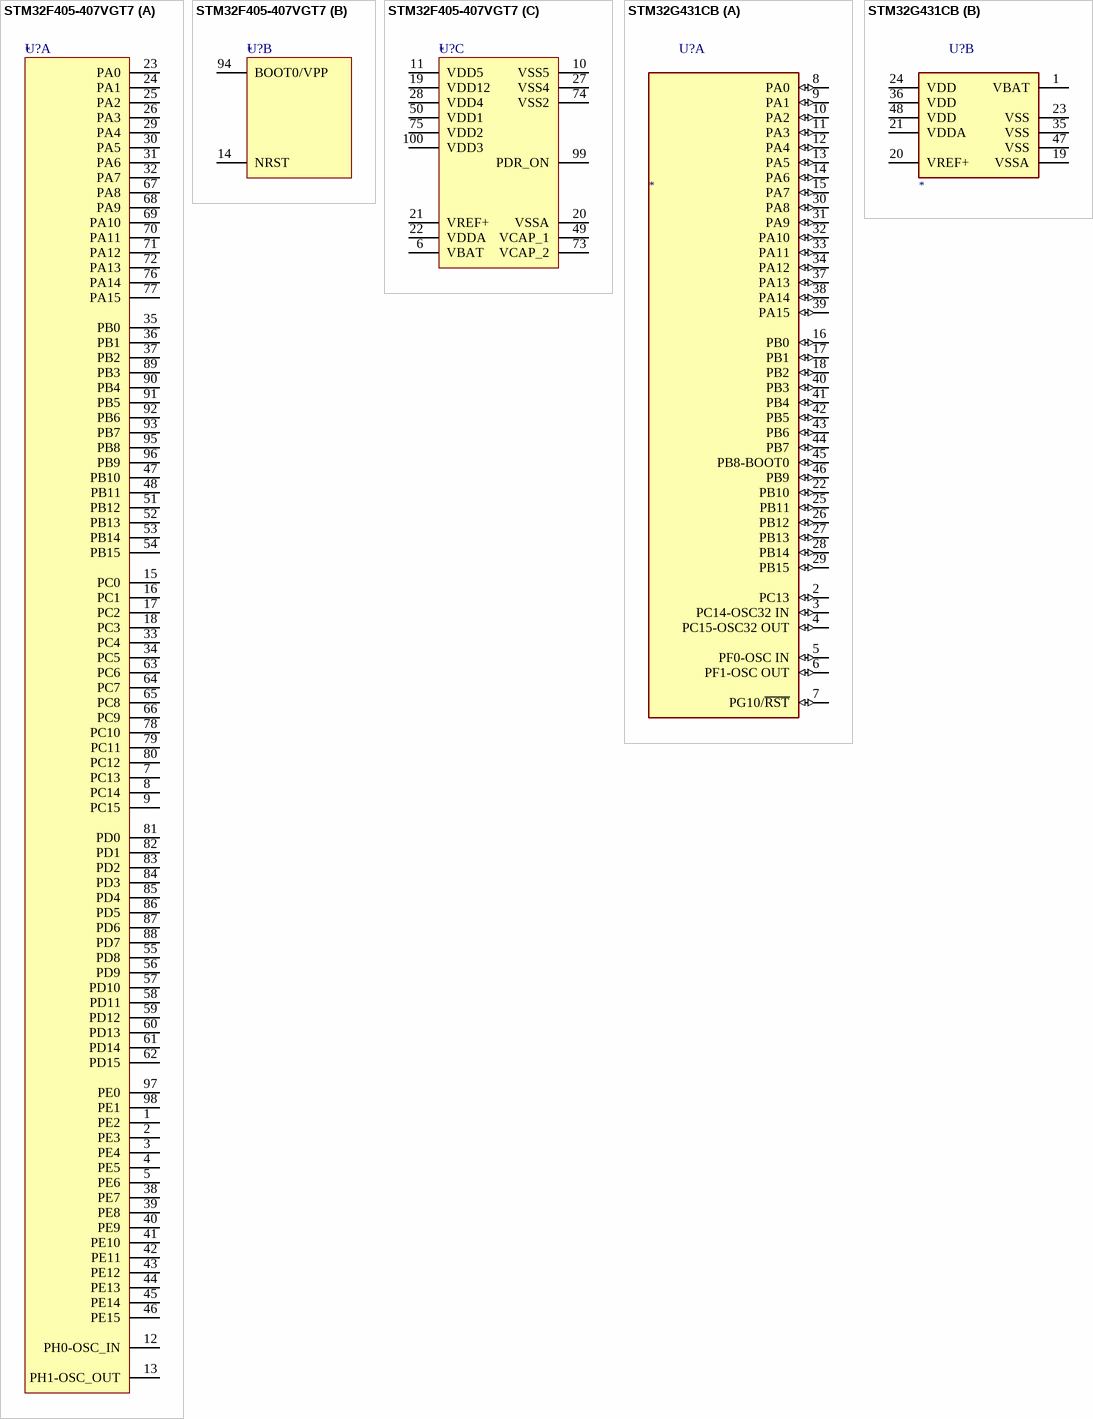
[diagram p5: symbols STM32F405-407VGT7 to STM32G431CB]

## STM32F405-407VGT7
designator U?
STM32F4 ARM Cortex-M4; Manufacturer Part Number: *
part A pins: 1 PE2, 2 PE3, 3 PE4, 4 PE5, 5 PE6, 7 PC13, 8 PC14, 9 PC15, 12 PH0-OSC_IN, 13 PH1-OSC_OUT, 15 PC0, 16 PC1, 17 PC2, 18 PC3, 23 PA0, 24 PA1, 25 PA2, 26 PA3, 29 PA4, 30 PA5, 31 PA6, 32 PA7, 33 PC4, 34 PC5, 35 PB0, 36 PB1, 37 PB2, 38 PE7, 39 PE8, 40 PE9, 41 PE10, 42 PE11, 43 PE12, 44 PE13, 45 PE14, 46 PE15, 47 PB10, 48 PB11, 51 PB12, 52 PB13, 53 PB14, 54 PB15, 55 PD8, 56 PD9, 57 PD10, 58 PD11, 59 PD12, 60 PD13, 61 PD14, 62 PD15, 63 PC6, 64 PC7, 65 PC8, 66 PC9, 67 PA8, 68 PA9, 69 PA10, 70 PA11, 71 PA12, 72 PA13, 76 PA14, 77 PA15, 78 PC10, 79 PC11, 80 PC12, 81 PD0, 82 PD1, 83 PD2, 84 PD3, 85 PD4, 86 PD5, 87 PD6, 88 PD7, 89 PB3, 90 PB4, 91 PB5, 92 PB6, 93 PB7, 95 PB8, 96 PB9, 97 PE0, 98 PE1
part B pins: 14 NRST, 94 BOOT0/VPP
part C pins: 6 VBAT, 10 VSS5, 11 VDD5, 19 VDD12, 20 VSSA, 21 VREF+, 22 VDDA, 27 VSS4, 28 VDD4, 49 VCAP_1, 50 VDD1, 73 VCAP_2, 74 VSS2, 75 VDD2, 99 PDR_ON, 100 VDD3

## STM32G431CB
designator U?
STM32G431CB; ComponentLink2Description: Datasheet; ComponentLink2URL: https://www.st.com/resource/en/datasheet/stm32g431cb.pdf; Manufacturer Part Number: *
part A pins: 2 PC13 (io), 3 PC14-OSC32 IN (io), 4 PC15-OSC32 OUT (io), 5 PF0-OSC IN (io), 6 PF1-OSC OUT (io), 7 PG10/~{RST} (io), 8 PA0 (io), 9 PA1 (io), 10 PA2 (io), 11 PA3 (io), 12 PA4 (io), 13 PA5 (io), 14 PA6 (io), 15 PA7 (io), 16 PB0 (io), 17 PB1 (io), 18 PB2 (io), 22 PB10 (io), 25 PB11 (io), 26 PB12 (io), 27 PB13 (io), 28 PB14 (io), 29 PB15 (io), 30 PA8 (io), 31 PA9 (io), 32 PA10 (io), 33 PA11 (io), 34 PA12 (io), 37 PA13 (io), 38 PA14 (io), 39 PA15 (io), 40 PB3 (io), 41 PB4 (io), 42 PB5 (io), 43 PB6 (io), 44 PB7 (io), 45 PB8-BOOT0 (io), 46 PB9 (io)
part B pins: 1 VBAT (power), 19 VSSA (power), 20 VREF+ (power), 21 VDDA (power), 23 VSS (power), 24 VDD (power), 35 VSS (power), 36 VDD (power), 47 VSS (power), 48 VDD (power)